# Altium schematic symbol library CH340B.SchLib: 1 symbol
Pins are listed as number, name and electrical type; pins without a type are passive.

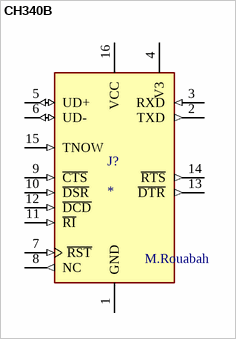
[diagram p0: symbol CH340B]

## CH340B
designator J?
MF: wch; MP: CH340B; SnapEDA_Link: https://www.snapeda.com/parts/CH340B/WCH/view-part/?ref=snap; Package: None; Value: *; Check_prices: https://www.snapeda.com/parts/CH340B/WCH/view-part/?ref=eda
footprint CH340B
pins: 1 GND (power), 2 TXD (out), 3 RXD (in), 4 V3 (power), 5 UD+ (io), 6 UD- (io), 7 ~{RST} (in), 8 NC (out), 9 ~{CTS} (in), 10 ~{DSR} (in), 11 ~{RI} (in), 12 ~{DCD} (in), 13 ~{DTR} (out), 14 ~{RTS} (out), 15 TNOW (in), 16 VCC (power)
text: M.Rouabah